# Altium schematic symbol library MIC2008YML-TR.Schlib: 1 symbol
Pins are listed as number, name and electrical type; pins without a type are passive.

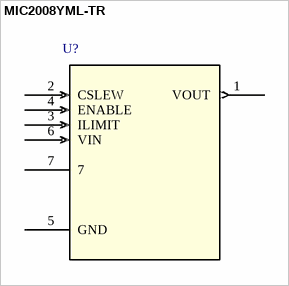
[diagram p0: symbol MIC2008YML-TR]

## MIC2008YML-TR
designator U?
Current Limiter
pins: 1 VOUT (out), 2 CSLEW (in), 3 ILIMIT (in), 4 ENABLE (in), 5 GND (power), 6 VIN (in), 7